# Altium schematic symbol library Jump_header.SchLib: 54 symbols
Pins are listed as number, name and electrical type; pins without a type are passive.

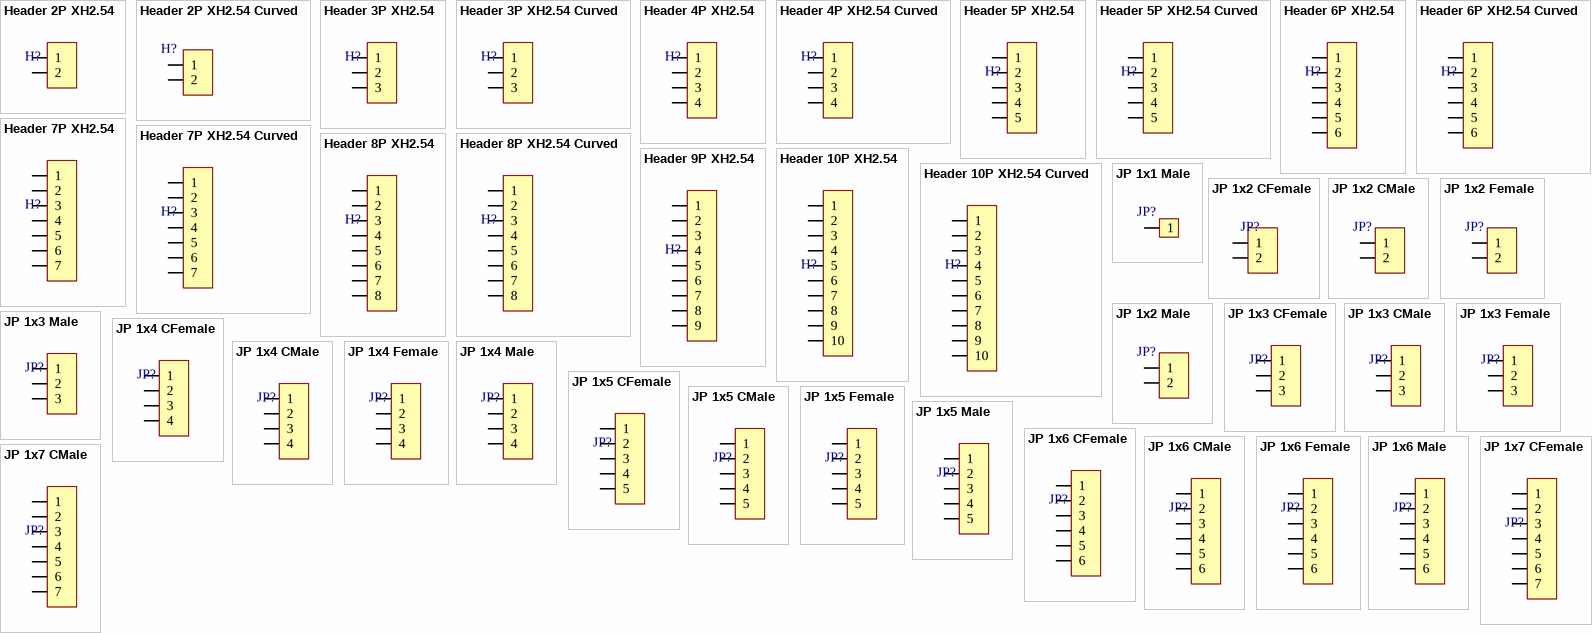
[diagram p0: symbols Header 2P XH2.54 to JP 1x7 CMale]

## Header 2P XH2.54
designator H?, comment XH2.54  (value not drawn)
DIP
footprint XH2.54M-2
pins: 1, 2

## Header 2P XH2.54 Curved
designator H?, comment XH2.54  (value not drawn)
DIP
footprint XH2.54M-2 Curved
pins: 1, 2

## Header 3P XH2.54
designator H?, comment XH2.54  (value not drawn)
DIP
footprint XH2.54M-3
pins: 1, 2, 3

## Header 3P XH2.54 Curved
designator H?, comment XH2.54  (value not drawn)
DIP
footprint XH2.54M-3 Curved
pins: 1, 2, 3

## Header 4P XH2.54
designator H?, comment XH2.54  (value not drawn)
DIP
footprint XH2.54M-4
pins: 1, 2, 3, 4

## Header 4P XH2.54 Curved
designator H?, comment XH2.54  (value not drawn)
DIP
footprint XH2.54M-4 Curved
pins: 1, 2, 3, 4

## Header 5P XH2.54
designator H?, comment XH2.54  (value not drawn)
DIP
footprint XH2.54M-5
pins: 1, 2, 3, 4, 5

## Header 5P XH2.54 Curved
designator H?, comment XH2.54  (value not drawn)
DIP
footprint XH2.54M-5 Curved
pins: 1, 2, 3, 4, 5

## Header 6P XH2.54
designator H?, comment XH2.54  (value not drawn)
DIP
footprint XH2.54M-6
pins: 1, 2, 3, 4, 5, 6

## Header 6P XH2.54 Curved
designator H?, comment XH2.54  (value not drawn)
DIP
footprint XH2.54M-6 Curved
pins: 1, 2, 3, 4, 5, 6

## Header 7P XH2.54
designator H?, comment XH2.54  (value not drawn)
DIP
footprint XH2.54M-7
pins: 1, 2, 3, 4, 5, 6, 7

## Header 7P XH2.54 Curved
designator H?, comment XH2.54  (value not drawn)
DIP
footprint XH2.54M-7 Curved
pins: 1, 2, 3, 4, 5, 6, 7

## Header 8P XH2.54
designator H?, comment XH2.54  (value not drawn)
DIP
footprint XH2.54M-8
pins: 1, 2, 3, 4, 5, 6, 7, 8

## Header 8P XH2.54 Curved
designator H?, comment XH2.54  (value not drawn)
DIP
footprint XH2.54M-8 Curved
pins: 1, 2, 3, 4, 5, 6, 7, 8

## Header 9P XH2.54
designator H?, comment XH2.54  (value not drawn)
DIP
footprint XH2.54M-9
pins: 1, 2, 3, 4, 5, 6, 7, 8, 9

## Header 10P XH2.54
designator H?, comment XH2.54  (value not drawn)
DIP
footprint XH2.54M-10
pins: 1, 2, 3, 4, 5, 6, 7, 8, 9, 10

## Header 10P XH2.54 Curved
designator H?, comment XH2.54  (value not drawn)
DIP
footprint XH2.54M-10 Curved
pins: 1, 2, 3, 4, 5, 6, 7, 8, 9, 10

## JP 1x1 Male
designator JP?, comment JP 2.54mm  (value not drawn)
DIP
footprint JP 1x1 Male
pins: 1

## JP 1x2 CFemale
designator JP?, comment JP 2.54mm  (value not drawn)
DIP
footprint JP 1x2 Curved Female
pins: 1, 2

## JP 1x2 CMale
designator JP?, comment JP 2.54mm  (value not drawn)
DIP
footprint JP 1x2 Curved Male
pins: 1, 2

## JP 1x2 Female
designator JP?, comment JP 2.54mm  (value not drawn)
DIP
footprint JP 1x2 Female
pins: 1, 2

## JP 1x2 Male
designator JP?, comment JP 2.54mm  (value not drawn)
DIP
footprint JP 1x2 Male
pins: 1, 2

## JP 1x3 CFemale
designator JP?, comment JP 2.54mm  (value not drawn)
DIP
footprint JP 1x3 Curved Female
pins: 1, 2, 3

## JP 1x3 CMale
designator JP?, comment JP 2.54mm  (value not drawn)
DIP
footprint JP 1x3 Curved Male
pins: 1, 2, 3

## JP 1x3 Female
designator JP?, comment JP 2.54mm  (value not drawn)
DIP
footprint JP 1x3 Female
pins: 1, 2, 3

## JP 1x3 Male
designator JP?, comment JP 2.54mm  (value not drawn)
DIP
footprint JP 1x3 Male
pins: 1, 2, 3

## JP 1x4 CFemale
designator JP?, comment JP 2.54mm  (value not drawn)
DIP
footprint JP 1x4 Curved Female
pins: 1, 2, 3, 4

## JP 1x4 CMale
designator JP?, comment JP 2.54mm  (value not drawn)
DIP
footprint JP 1x4 Curved Male
pins: 1, 2, 3, 4

## JP 1x4 Female
designator JP?, comment JP 2.54mm  (value not drawn)
DIP
footprint JP 1x4 Female
pins: 1, 2, 3, 4

## JP 1x4 Male
designator JP?, comment JP 2.54mm  (value not drawn)
DIP
footprint JP 1x4 Male
pins: 1, 2, 3, 4

## JP 1x5 CFemale
designator JP?, comment JP 2.54mm  (value not drawn)
DIP
footprint JP 1x5 Curved Female
pins: 1, 2, 3, 4, 5

## JP 1x5 CMale
designator JP?, comment JP 2.54mm  (value not drawn)
DIP
footprint JP 1x5 Curved Male
pins: 1, 2, 3, 4, 5

## JP 1x5 Female
designator JP?, comment JP 2.54mm  (value not drawn)
DIP
footprint JP 1x5 Female
pins: 1, 2, 3, 4, 5

## JP 1x5 Male
designator JP?, comment JP 2.54mm  (value not drawn)
DIP
footprint JP 1x5 Male
pins: 1, 2, 3, 4, 5

## JP 1x6 CFemale
designator JP?, comment JP 2.54mm  (value not drawn)
DIP
footprint JP 1x6 Curved Female
pins: 1, 2, 3, 4, 5, 6

## JP 1x6 CMale
designator JP?, comment JP 2.54mm  (value not drawn)
DIP
footprint JP 1x6 Curved Male
pins: 1, 2, 3, 4, 5, 6

## JP 1x6 Female
designator JP?, comment JP 2.54mm  (value not drawn)
DIP
footprint JP 1x6 Female
pins: 1, 2, 3, 4, 5, 6

## JP 1x6 Male
designator JP?, comment JP 2.54mm  (value not drawn)
DIP
footprint JP 1x6 Male
pins: 1, 2, 3, 4, 5, 6

## JP 1x7 CFemale
designator JP?, comment JP 2.54mm  (value not drawn)
DIP
footprint JP 1x7 Curved Female
pins: 1, 2, 3, 4, 5, 6, 7

## JP 1x7 CMale
designator JP?, comment JP 2.54mm  (value not drawn)
DIP
footprint JP 1x7 Curved Male
pins: 1, 2, 3, 4, 5, 6, 7

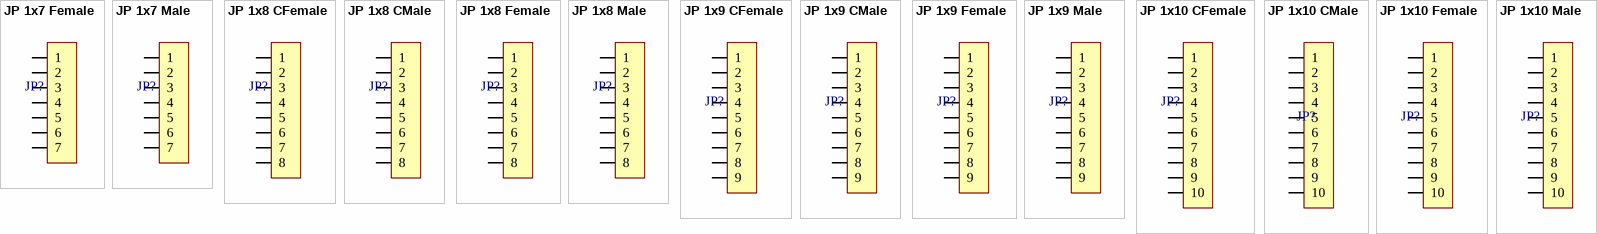
[diagram p1: symbols JP 1x7 Female to JP 1x10 Male]

## JP 1x7 Female
designator JP?, comment JP 2.54mm  (value not drawn)
DIP
footprint JP 1x7 Female
pins: 1, 2, 3, 4, 5, 6, 7

## JP 1x7 Male
designator JP?, comment JP 2.54mm  (value not drawn)
DIP
footprint JP 1x7 Male
pins: 1, 2, 3, 4, 5, 6, 7

## JP 1x8 CFemale
designator JP?, comment JP 2.54mm  (value not drawn)
DIP
footprint JP 1x8 Curved Female
pins: 1, 2, 3, 4, 5, 6, 7, 8

## JP 1x8 CMale
designator JP?, comment JP 2.54mm  (value not drawn)
DIP
footprint JP 1x8 Curved Male
pins: 1, 2, 3, 4, 5, 6, 7, 8

## JP 1x8 Female
designator JP?, comment JP 2.54mm  (value not drawn)
DIP
footprint JP 1x8 Female
pins: 1, 2, 3, 4, 5, 6, 7, 8

## JP 1x8 Male
designator JP?, comment JP 2.54mm  (value not drawn)
DIP
footprint JP 1x8 Male
pins: 1, 2, 3, 4, 5, 6, 7, 8

## JP 1x9 CFemale
designator JP?, comment JP 2.54mm  (value not drawn)
DIP
footprint JP 1x9 Curved Female
pins: 1, 2, 3, 4, 5, 6, 7, 8, 9

## JP 1x9 CMale
designator JP?, comment JP 2.54mm  (value not drawn)
DIP
footprint JP 1x9 Curved Male
pins: 1, 2, 3, 4, 5, 6, 7, 8, 9

## JP 1x9 Female
designator JP?, comment JP 2.54mm  (value not drawn)
DIP
footprint JP 1x9 Female
pins: 1, 2, 3, 4, 5, 6, 7, 8, 9

## JP 1x9 Male
designator JP?, comment JP 2.54mm  (value not drawn)
DIP
footprint JP 1x9 Male
pins: 1, 2, 3, 4, 5, 6, 7, 8, 9

## JP 1x10 CFemale
designator JP?, comment JP 2.54mm  (value not drawn)
DIP
footprint JP 1x10 Curved Female
pins: 1, 2, 3, 4, 5, 6, 7, 8, 9, 10

## JP 1x10 CMale
designator JP?, comment JP 2.54mm  (value not drawn)
DIP
footprint JP 1x10 Curved Male
pins: 1, 2, 3, 4, 5, 6, 7, 8, 9, 10

## JP 1x10 Female
designator JP?, comment JP 2.54mm  (value not drawn)
DIP
footprint JP 1x10 Female
pins: 1, 2, 3, 4, 5, 6, 7, 8, 9, 10

## JP 1x10 Male
designator JP?, comment JP 2.54mm  (value not drawn)
DIP
footprint JP 1x10 Male
pins: 1, 2, 3, 4, 5, 6, 7, 8, 9, 10